# Altium footprint library IC.PcbLib: 42 footprints (part 1 of 3)
Each footprint in its own frame and in the unit in brackets; x right, y up, seen from the top. Pads: shape width x height; smd on the part's side, far side on the other; paste and mask are expansions set on the pad; w line width, h text height; cw(c..) or ccw(c..) is an arc to the next point about the centre after c.
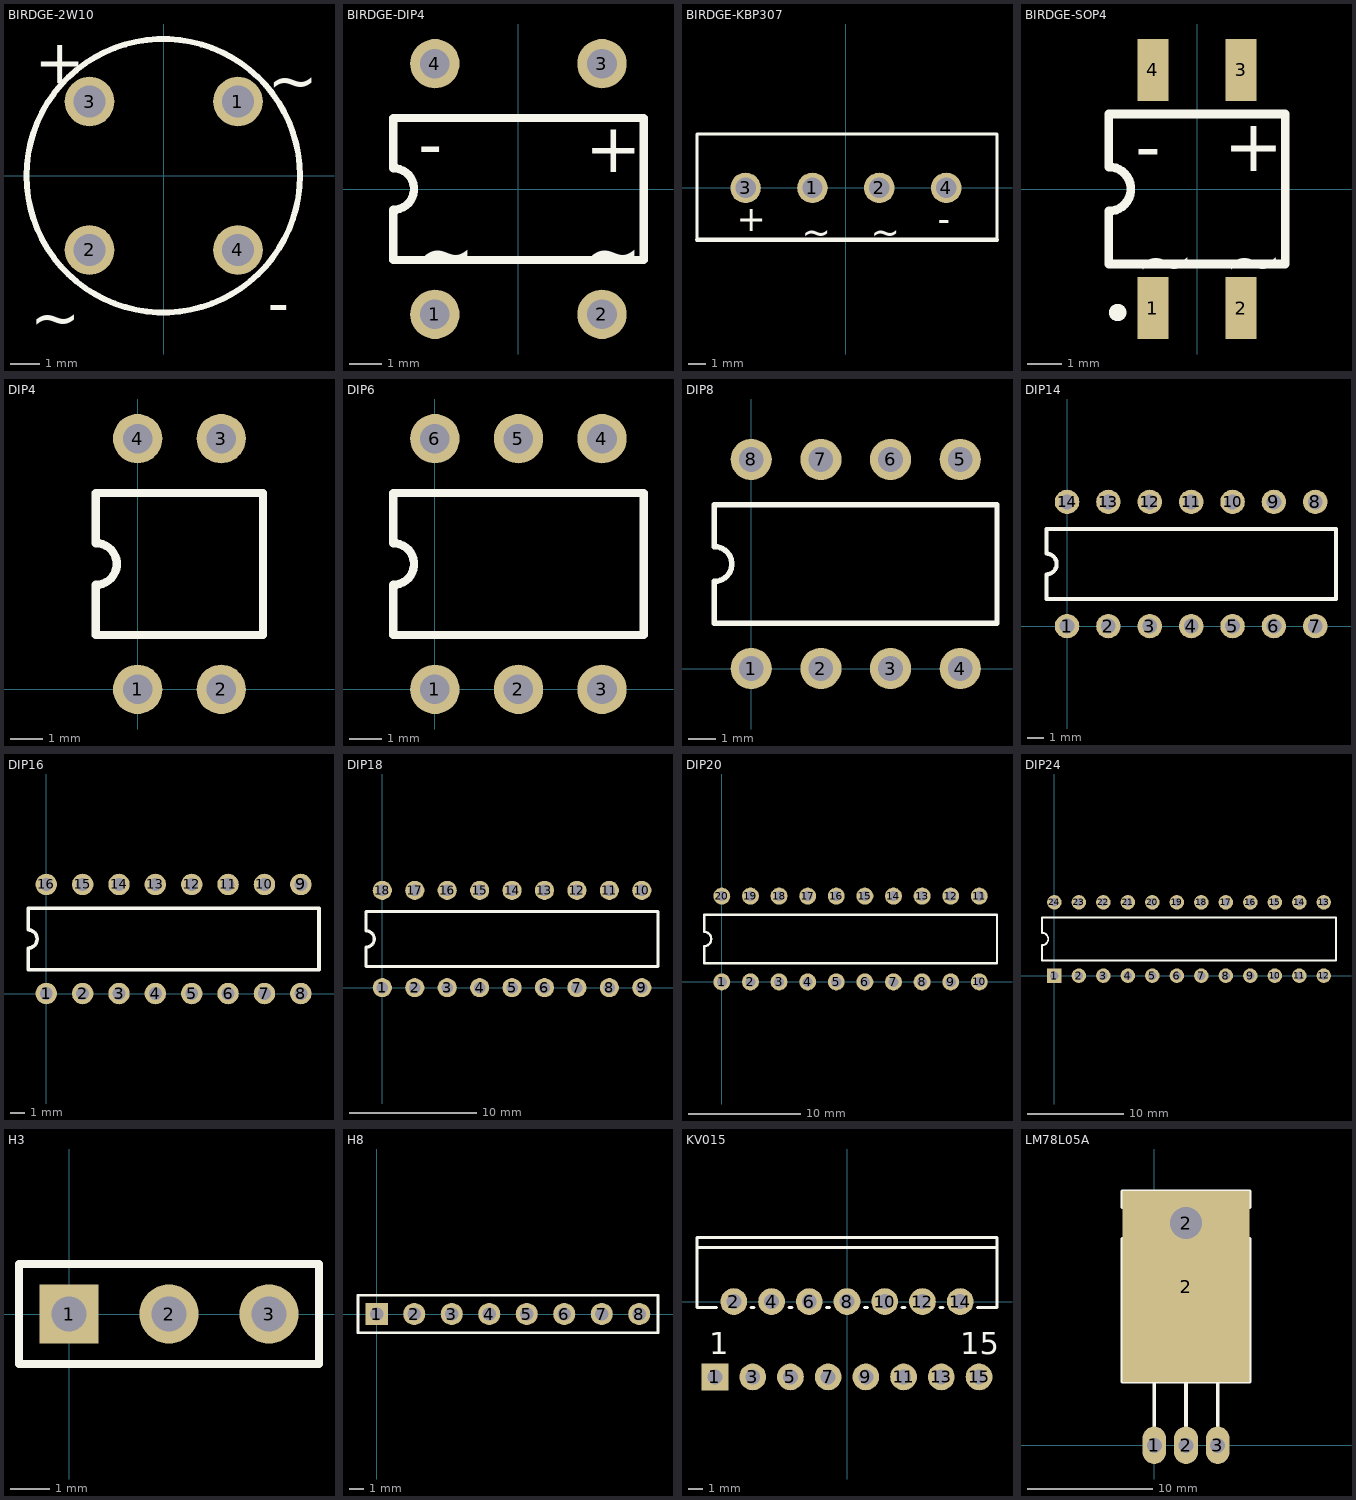
[diagram p0: the footprints below, top view; thin cyan lines are the x and y axes]

## BIRDGE-2W10 [mm] "Bridge Rectifier; 4 Terminals; Body 9.4 x 9.4 mm (typ); Pitch 5.08 mm"
height 9.91
pads (4):
  round 1.7 hole 1.1: 1(2.54,2.54) 2(-2.54,-2.54) 3(-2.54,2.54) 4(2.54,-2.54)
Top Overlay:
  circle w0.2: c-0.019,0 r4.68
  text "~" at 3.556,2.54 h1.5
  text "~" at -4.572,-5.588 h1.5
  text "-" at 3.556,-5.08 h1.5
  text "+" at -4.41,3.164 h1.5

## BIRDGE-DIP4 [mm]
pads (4):
  round 1.5 hole 0.9: 1(-2.54,-3.81) 2(2.54,-3.81) 3(2.54,3.81) 4(-2.54,3.81)
Top Overlay:
  lines w0.254: -3.81,-2.159 3.81,-2.159 3.81,2.159 -3.81,2.159 -3.81,0.635 cw(c-3.81,0) -3.81,-0.635 -3.81,-2.159
  text "+" at 2.032,0.508 h1.5
  text "-" at -3.048,0.635 h1.5
  text "~" at -3.048,-2.667 h1.5
  text "~" at 2.032,-2.667 h1.5

## BIRDGE-KBP307 [mm] "Bridge Rectifier; 4 Terminals; Body 9.4 x 9.4 mm (typ); Pitch 5.08 mm"
height 9.91
pads (4):
  round 1.8 hole 1.2: 1(-1.968,0) 2(1.968,0) 3(-5.905,0) 4(5.905,0)
Top Overlay:
  lines w0.2: -8.763,-3.048 -8.763,3.175 8.89,3.175 8.89,-3.048
  lines w0.254: -8.763,-3.048 8.89,-3.048
  text "+" at -6.413,-2.54 h1.5
  text "-" at 5.397,-2.54 h1.5
  text "~" at -2.603,-3.302 h1.5
  text "~" at 1.46,-3.302 h1.5

## BIRDGE-SOP4 [mil]
pads (4):
  rect 35x70 smd: 1(-50,-135) 2(50,-135) 3(50,135) 4(-50,135)
Top Overlay:
  circle w9.84: c-89.92,-140 r4.92
  lines w10: -100,-85 -100,-25 ccw(c-100,0) -100,25 -100,85 100,85 100,-85 -100,-85
  text "~" at 30,-110 h59.05
  text "~" at -70,-110 h59.05
  text "-" at -70,20 h59.05
  text "+" at 30,20 h59.06

## DIP4 [mm]
pads (4):
  round 1.5 hole 0.9: 1(0,0) 2(2.54,0) 3(2.54,7.62) 4(0,7.62)
Top Overlay:
  lines w0.254: -1.27,1.651 -1.27,3.175 ccw(c-1.27,3.81) -1.27,4.445 -1.27,5.969 3.81,5.969 3.81,1.651 -1.27,1.651

## DIP6 [mm]
pads (6):
  round 1.5 hole 0.9: 1(0,0) 2(2.54,0) 3(5.08,0) 4(5.08,7.62) 5(2.54,7.62) 6(0,7.62)
Top Overlay:
  lines w0.254: -1.27,1.651 6.35,1.651 6.35,5.969 -1.27,5.969 -1.27,4.445 cw(c-1.27,3.81) -1.27,3.175 -1.27,1.651

## DIP8 [mm] "DIP; 8 Leads; Row Spacing 7.62 mm; Pitch 2.54 mm"
pads (8):
  round 1.5 hole 0.9: 1(0,0) 2(2.54,0) 3(5.08,0) 4(7.62,0) 5(7.62,7.62) 6(5.08,7.62) 7(2.54,7.62) 8(0,7.62)
Top Overlay:
  lines w0.2: -1.34,1.651 8.96,1.651 8.96,5.969 -1.34,5.969 -1.34,4.445 cw(c-1.34,3.81) -1.34,3.175 -1.34,1.651

## DIP14 [mm]
pads (14):
  round 1.5 hole 0.9: 1(0,0) 2(2.54,0) 3(5.08,0) 4(7.62,0) 5(10.16,0) 6(12.7,0) 7(15.24,0) 8(15.24,7.62) 9(12.7,7.62) 10(10.16,7.62) 11(7.62,7.62) 12(5.08,7.62) 13(2.54,7.62) 14(0,7.62)
Top Overlay:
  lines w0.254: -1.27,1.651 16.51,1.651 16.51,5.969 -1.27,5.969 -1.27,4.445 cw(c-1.27,3.81) -1.27,3.175 -1.27,1.651

## DIP16 [mm]
pads (16):
  round 1.5 hole 0.9: 1(0,0) 2(2.54,0) 3(5.08,0) 4(7.62,0) 5(10.16,0) 6(12.7,0) 7(15.24,0) 8(17.78,0) 9(17.78,7.62) 10(15.24,7.62) 11(12.7,7.62) 12(10.16,7.62) 13(7.62,7.62) 14(5.08,7.62) 15(2.54,7.62) 16(0,7.62)
Top Overlay:
  lines w0.254: -1.27,1.651 -1.27,3.175 ccw(c-1.27,3.81) -1.27,4.445 -1.27,5.969 19.05,5.969 19.05,1.651 -1.27,1.651

## DIP18 [mm]
pads (18):
  round 1.5 hole 0.9: 1(0,0) 2(2.54,0) 3(5.08,0) 4(7.62,0) 5(10.16,0) 6(12.7,0) 7(15.24,0) 8(17.78,0) 9(20.32,0) 10(20.32,7.62) 11(17.78,7.62) 12(15.24,7.62) 13(12.7,7.62) 14(10.16,7.62) 15(7.62,7.62) 16(5.08,7.62) 17(2.54,7.62) 18(0,7.62)
Top Overlay:
  lines w0.254: -1.27,1.651 -1.27,3.175 ccw(c-1.27,3.81) -1.27,4.445 -1.27,5.969 21.59,5.969 21.59,1.651 -1.27,1.651

## DIP20 [mm] "DIP; 20 Leads; Row Spacing 7.62 mm; Pitch 2.54 mm"
pads (20):
  round 1.5 hole 0.9: 1(0,0) 2(2.54,0) 3(5.08,0) 4(7.62,0) 5(10.16,0) 6(12.7,0) 7(15.24,0) 8(17.78,0) 9(20.32,0) 10(22.86,0) 11(22.86,7.62) 12(20.32,7.62) 13(17.78,7.62) 14(15.24,7.62) 15(12.7,7.62) 16(10.16,7.62) 17(7.62,7.62) 18(5.08,7.62) 19(2.54,7.62) 20(0,7.62)
Top Overlay:
  lines w0.2: -1.57,1.651 24.43,1.651 24.43,5.969 -1.57,5.969 -1.57,4.445 cw(c-1.57,3.81) -1.57,3.175 -1.57,1.651

## DIP24 [mm]
pads (24):
  rect 1.5x1.5 hole 0.9: 1(0,0)
  round 1.5 hole 0.9: 2(2.54,0) 3(5.08,0) 4(7.62,0) 5(10.16,0) 6(12.7,0) 7(15.24,0) 8(17.78,0) 9(20.32,0) 10(22.86,0) 11(25.4,0) 12(27.94,0) 13(27.94,7.62) 14(25.4,7.62) 15(22.86,7.62) 16(20.32,7.62) 17(17.78,7.62) 18(15.24,7.62) 19(12.7,7.62) 20(10.16,7.62) 21(7.62,7.62) 22(5.08,7.62) 23(2.54,7.62) 24(0,7.62)
Top Overlay:
  lines w0.2: -1.27,1.585 29.21,1.585 29.21,6.035 -1.27,6.035 -1.27,4.445 cw(c-1.27,3.81) -1.27,3.175 -1.27,1.585

## H3 [mm] "Connector; Header; 3 Position"
pads (3):
  rect 1.5x1.5 hole 0.9: 1(0,0)
  round 1.5 hole 0.9: 2(2.54,0) 3(5.08,0)
Top Overlay:
  lines w0.2: -1.27,-1.27 6.35,-1.27 6.35,1.27 -1.27,1.27 -1.27,-1.27

## H8 [mm] "Connector; Header; 8 Position"
pads (8):
  rect 1.5x1.5 hole 0.9: 1(0,0)
  round 1.5 hole 0.9: 2(2.54,0) 3(5.08,0) 4(7.62,0) 5(10.16,0) 6(12.7,0) 7(15.24,0) 8(17.78,0)
Top Overlay:
  lines w0.2: -1.27,-1.27 19.05,-1.27 19.05,1.27 -1.27,1.27 -1.27,-1.27

## KV015 [mm] "TO, Thru-Hole, Vertical, Heatsink Mounted; 15 Bent Staggered Leads; Pitch 1.27 mm"
height 21
pads (15):
  rect 1.8x1.8 hole 1: 1(-8.89,-5.08)
  round 1.8 hole 1: 2(-7.62,0) 3(-6.35,-5.08) 4(-5.08,0) 5(-3.81,-5.08) 6(-2.54,0) 7(-1.27,-5.08) 8(0,0) 9(1.27,-5.08) 10(2.54,0) 11(3.81,-5.08) 12(5.08,0) 13(6.35,-5.08) 14(7.62,0) 15(8.89,-5.08)
Top Overlay:
  lines w0.2: -10.1,3.65 10.1,3.65 ; -8.8,-0.4 -10.1,-0.4 -10.1,4.3 10.1,4.3 10.1,-0.4 8.8,-0.4 ; -6.45,-0.4 -6.25,-0.4 ; -3.91,-0.4 -3.71,-0.4 ; -1.37,-0.4 -1.17,-0.4 ; 1.17,-0.4 1.37,-0.4 ; 3.71,-0.4 3.91,-0.4 ; 6.25,-0.4 6.45,-0.4
  text "15" at 7.62,-3.556 h1.5
  text "1" at -9.271,-3.556 h1.5

## LM78L05A [mm]
pads (5):
  oval 1.9x3 hole 1.2: 1(0,0) 2(2.54,0) 3(5.08,0)
  rect 10.2x15.3 smd: 2(2.54,12.7)
  round 3 hole 2.54: 2(2.54,17.78)
Top Overlay:
  lines w0.305: 0,1.524 0,5.08 ; 2.54,1.524 2.54,5.08 ; 5.08,1.524 5.08,5.08 ; -2.54,5.08 7.62,5.08 7.62,16.51 6.35,16.51 6.35,19.05 7.62,19.05 7.62,20.32 -2.54,20.32 -2.54,19.05 -1.27,19.05 -1.27,16.51 -2.54,16.51 -2.54,5.08